# Altium schematic symbol library Regulator_Switching.SchLib: 1279 symbols (part 3 of 14)
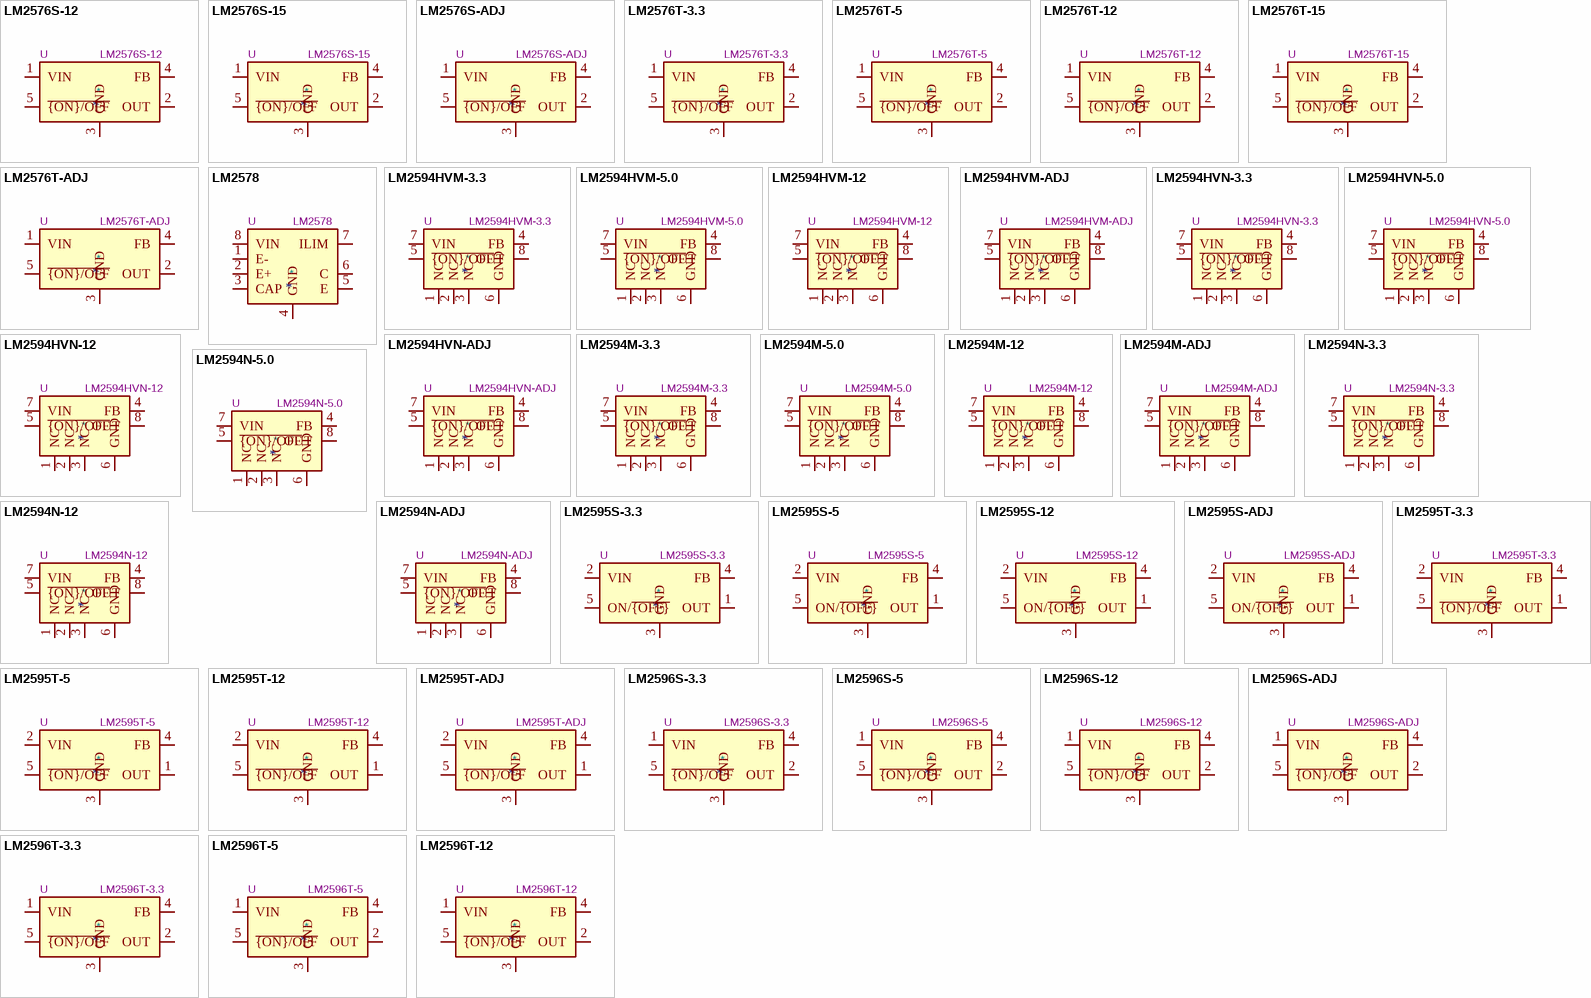
[diagram p34: symbols LM2576S-12 to LM2596T-12]

## LM2576T-ADJ
designator *  value LM2576T-ADJ  Reference: U
Adjustable Output Voltage, 3A SIMPLE SWITCHER® Step-Down Voltage Regulator, TO-220-5; ki_keywords: Step-Down Voltage Regulator 3A Adjustable; ki_fp_filters: TO?220*; Footprint: Package_TO_SOT_THT:TO-220-5_Vertical; Datasheet: http://www.ti.com/lit/ds/symlink/lm2576.pdf; Description_: Adjustable Output Voltage, 3A SIMPLE SWITCHER® Step-Down Voltage Regulator, TO-220-5
pins: 1 VIN, 2 OUT, 3 GND, 4 FB, 5 ~{{ON}/OFF}

## LM2578
designator *  value LM2578  Reference: U
750mA, Switching Regulator, adjustable output voltage, DIP-8/SOIC-8; ki_fp_filters: DIP*W7.62mm* SOIC*3.9x4.9mm*; Datasheet: http://www.ti.com/lit/ds/symlink/lm3578a.pdf; Description_: 750mA, Switching Regulator, adjustable output voltage, DIP-8/SOIC-8; ki_keywords: switching regulator
pins: 1 E-, 2 E+, 3 CAP, 4 GND, 5 E, 6 C, 7 ILIM, 8 VIN

## LM2594HVM-3.3
designator *  value LM2594HVM-3.3  Reference: U
3.3V, 0.5A SIMPLE SWITCHER® Step-Down Voltage Regulator, Maximum VIN 60V, SOIC-8; ki_keywords: buck converter regulator step-down voltage simple switcher fixed; ki_fp_filters: SOIC*3.9x4.9mm*; Footprint: Package_SO:SOIC-8_3.9x4.9mm_P1.27mm; Datasheet: http://www.ti.com/lit/ds/symlink/lm2594.pdf; Description_: 3.3V, 0.5A SIMPLE SWITCHER® Step-Down Voltage Regulator, Maximum VIN 60V, SOIC-8
pins: 1 NC, 2 NC, 3 NC, 4 FB, 5 ~{{ON}/OFF}, 6 GND, 7 VIN, 8 OUT

## LM2594HVM-5.0
designator *  value LM2594HVM-5.0  Reference: U
5.0V, 0.5A SIMPLE SWITCHER® Step-Down Voltage Regulator, Maximum VIN 60V, SOIC-8; ki_keywords: buck converter regulator step-down voltage simple switcher fixed; ki_fp_filters: SOIC*3.9x4.9mm*; Footprint: Package_SO:SOIC-8_3.9x4.9mm_P1.27mm; Datasheet: http://www.ti.com/lit/ds/symlink/lm2594.pdf; Description_: 5.0V, 0.5A SIMPLE SWITCHER® Step-Down Voltage Regulator, Maximum VIN 60V, SOIC-8
pins: 1 NC, 2 NC, 3 NC, 4 FB, 5 ~{{ON}/OFF}, 6 GND, 7 VIN, 8 OUT

## LM2594HVM-12
designator *  value LM2594HVM-12  Reference: U
12V, 0.5A SIMPLE SWITCHER® Step-Down Voltage Regulator, Maximum VIN 60V, SOIC-8; ki_keywords: buck converter regulator step-down voltage simple switcher fixed; ki_fp_filters: SOIC*3.9x4.9mm*; Footprint: Package_SO:SOIC-8_3.9x4.9mm_P1.27mm; Datasheet: http://www.ti.com/lit/ds/symlink/lm2594.pdf; Description_: 12V, 0.5A SIMPLE SWITCHER® Step-Down Voltage Regulator, Maximum VIN 60V, SOIC-8
pins: 1 NC, 2 NC, 3 NC, 4 FB, 5 ~{{ON}/OFF}, 6 GND, 7 VIN, 8 OUT

## LM2594HVM-ADJ
designator *  value LM2594HVM-ADJ  Reference: U
Adjustable Output Voltage, 0.5A SIMPLE SWITCHER® Step-Down Voltage Regulator, Maximum VIN 60V, SOIC-8; ki_keywords: buck converter regulator step-down voltage simple switcher adjustable; ki_fp_filters: SOIC*3.9x4.9mm*; Footprint: Package_SO:SOIC-8_3.9x4.9mm_P1.27mm; Datasheet: http://www.ti.com/lit/ds/symlink/lm2594.pdf; Description_: Adjustable Output Voltage, 0.5A SIMPLE SWITCHER® Step-Down Voltage Regulator, Maximum VIN 60V, SOIC-8
pins: 1 NC, 2 NC, 3 NC, 4 FB, 5 ~{{ON}/OFF}, 6 GND, 7 VIN, 8 OUT

## LM2594HVN-3.3
designator *  value LM2594HVN-3.3  Reference: U
3.3V, 0.5A SIMPLE SWITCHER® Step-Down Voltage Regulator, Maximum VIN 60V, DIP-8; ki_keywords: buck converter regulator step-down voltage simple switcher fixed; ki_fp_filters: DIP*W7.62mm*; Footprint: Package_DIP:DIP-8_W7.62mm; Datasheet: http://www.ti.com/lit/ds/symlink/lm2594.pdf; Description_: 3.3V, 0.5A SIMPLE SWITCHER® Step-Down Voltage Regulator, Maximum VIN 60V, DIP-8
pins: 1 NC, 2 NC, 3 NC, 4 FB, 5 ~{{ON}/OFF}, 6 GND, 7 VIN, 8 OUT

## LM2594HVN-5.0
designator *  value LM2594HVN-5.0  Reference: U
5.0V, 0.5A SIMPLE SWITCHER® Step-Down Voltage Regulator, Maximum VIN 60V, DIP-8; ki_keywords: buck converter regulator step-down voltage simple switcher fixed; ki_fp_filters: DIP*W7.62mm*; Footprint: Package_DIP:DIP-8_W7.62mm; Datasheet: http://www.ti.com/lit/ds/symlink/lm2594.pdf; Description_: 5.0V, 0.5A SIMPLE SWITCHER® Step-Down Voltage Regulator, Maximum VIN 60V, DIP-8
pins: 1 NC, 2 NC, 3 NC, 4 FB, 5 ~{{ON}/OFF}, 6 GND, 7 VIN, 8 OUT

## LM2594HVN-12
designator *  value LM2594HVN-12  Reference: U
12V, 0.5A SIMPLE SWITCHER® Step-Down Voltage Regulator, Maximum VIN 60V, DIP-8; ki_keywords: buck converter regulator step-down voltage simple switcher fixed; ki_fp_filters: DIP*W7.62mm*; Footprint: Package_DIP:DIP-8_W7.62mm; Datasheet: http://www.ti.com/lit/ds/symlink/lm2594.pdf; Description_: 12V, 0.5A SIMPLE SWITCHER® Step-Down Voltage Regulator, Maximum VIN 60V, DIP-8
pins: 1 NC, 2 NC, 3 NC, 4 FB, 5 ~{{ON}/OFF}, 6 GND, 7 VIN, 8 OUT

## LM2594HVN-ADJ
designator *  value LM2594HVN-ADJ  Reference: U
Adjustable Output Voltage, 0.5A SIMPLE SWITCHER® Step-Down Voltage Regulator, Maximum VIN 60V, DIP-8; ki_keywords: buck converter regulator step-down voltage simple switcher adjustable; ki_fp_filters: DIP*W7.62mm*; Footprint: Package_DIP:DIP-8_W7.62mm; Datasheet: http://www.ti.com/lit/ds/symlink/lm2594.pdf; Description_: Adjustable Output Voltage, 0.5A SIMPLE SWITCHER® Step-Down Voltage Regulator, Maximum VIN 60V, DIP-8
pins: 1 NC, 2 NC, 3 NC, 4 FB, 5 ~{{ON}/OFF}, 6 GND, 7 VIN, 8 OUT

## LM2594M-3.3
designator *  value LM2594M-3.3  Reference: U
3.3V, 0.5A SIMPLE SWITCHER® Step-Down Voltage Regulator, Maximum VIN 45V, SOIC-8; ki_keywords: buck converter regulator step-down voltage simple switcher fixed; ki_fp_filters: SOIC*3.9x4.9mm*; Footprint: Package_SO:SOIC-8_3.9x4.9mm_P1.27mm; Datasheet: http://www.ti.com/lit/ds/symlink/lm2594.pdf; Description_: 3.3V, 0.5A SIMPLE SWITCHER® Step-Down Voltage Regulator, Maximum VIN 45V, SOIC-8
pins: 1 NC, 2 NC, 3 NC, 4 FB, 5 ~{{ON}/OFF}, 6 GND, 7 VIN, 8 OUT

## LM2594M-5.0
designator *  value LM2594M-5.0  Reference: U
5.0V, 0.5A SIMPLE SWITCHER® Step-Down Voltage Regulator, Maximum VIN 45V, SOIC-8; ki_keywords: buck converter regulator step-down voltage simple switcher fixed; ki_fp_filters: SOIC*3.9x4.9mm*; Footprint: Package_SO:SOIC-8_3.9x4.9mm_P1.27mm; Datasheet: http://www.ti.com/lit/ds/symlink/lm2594.pdf; Description_: 5.0V, 0.5A SIMPLE SWITCHER® Step-Down Voltage Regulator, Maximum VIN 45V, SOIC-8
pins: 1 NC, 2 NC, 3 NC, 4 FB, 5 ~{{ON}/OFF}, 6 GND, 7 VIN, 8 OUT

## LM2594M-12
designator *  value LM2594M-12  Reference: U
12V, 0.5A SIMPLE SWITCHER® Step-Down Voltage Regulator, Maximum VIN 45V, SOIC-8; ki_keywords: buck converter regulator step-down voltage simple switcher fixed; ki_fp_filters: SOIC*3.9x4.9mm*; Footprint: Package_SO:SOIC-8_3.9x4.9mm_P1.27mm; Datasheet: http://www.ti.com/lit/ds/symlink/lm2594.pdf; Description_: 12V, 0.5A SIMPLE SWITCHER® Step-Down Voltage Regulator, Maximum VIN 45V, SOIC-8
pins: 1 NC, 2 NC, 3 NC, 4 FB, 5 ~{{ON}/OFF}, 6 GND, 7 VIN, 8 OUT

## LM2594M-ADJ
designator *  value LM2594M-ADJ  Reference: U
Adjustable Output Voltage, 0.5A SIMPLE SWITCHER® Step-Down Voltage Regulator, Maximum VIN 45V, SOIC-8; ki_keywords: buck converter regulator step-down voltage simple switcher adjustable; ki_fp_filters: SOIC*3.9x4.9mm*; Footprint: Package_SO:SOIC-8_3.9x4.9mm_P1.27mm; Datasheet: http://www.ti.com/lit/ds/symlink/lm2594.pdf; Description_: Adjustable Output Voltage, 0.5A SIMPLE SWITCHER® Step-Down Voltage Regulator, Maximum VIN 45V, SOIC-8
pins: 1 NC, 2 NC, 3 NC, 4 FB, 5 ~{{ON}/OFF}, 6 GND, 7 VIN, 8 OUT

## LM2594N-3.3
designator *  value LM2594N-3.3  Reference: U
3.3V, 0.5A SIMPLE SWITCHER® Step-Down Voltage Regulator, Maximum VIN 45V, DIP-8; ki_keywords: buck converter regulator step-down voltage simple switcher fixed; ki_fp_filters: DIP*W7.62mm*; Footprint: Package_DIP:DIP-8_W7.62mm; Datasheet: http://www.ti.com/lit/ds/symlink/lm2594.pdf; Description_: 3.3V, 0.5A SIMPLE SWITCHER® Step-Down Voltage Regulator, Maximum VIN 45V, DIP-8
pins: 1 NC, 2 NC, 3 NC, 4 FB, 5 ~{{ON}/OFF}, 6 GND, 7 VIN, 8 OUT

## LM2594N-5.0
designator *  value LM2594N-5.0  Reference: U
5.0V, 0.5A SIMPLE SWITCHER® Step-Down Voltage Regulator, Maximum VIN 45V, DIP-8; ki_keywords: buck converter regulator step-down voltage simple switcher fixed; ki_fp_filters: DIP*W7.62mm*; Footprint: Package_DIP:DIP-8_W7.62mm; Datasheet: http://www.ti.com/lit/ds/symlink/lm2594.pdf; Description_: 5.0V, 0.5A SIMPLE SWITCHER® Step-Down Voltage Regulator, Maximum VIN 45V, DIP-8
pins: 1 NC, 2 NC, 3 NC, 4 FB, 5 ~{{ON}/OFF}, 6 GND, 7 VIN, 8 OUT

## LM2594N-12
designator *  value LM2594N-12  Reference: U
12V, 0.5A SIMPLE SWITCHER® Step-Down Voltage Regulator, Maximum VIN 45V, DIP-8; ki_keywords: buck converter regulator step-down voltage simple switcher fixed; ki_fp_filters: DIP*W7.62mm*; Footprint: Package_DIP:DIP-8_W7.62mm; Datasheet: http://www.ti.com/lit/ds/symlink/lm2594.pdf; Description_: 12V, 0.5A SIMPLE SWITCHER® Step-Down Voltage Regulator, Maximum VIN 45V, DIP-8
pins: 1 NC, 2 NC, 3 NC, 4 FB, 5 ~{{ON}/OFF}, 6 GND, 7 VIN, 8 OUT

## LM2594N-ADJ
designator *  value LM2594N-ADJ  Reference: U
Adjustable Output Voltage, 0.5A SIMPLE SWITCHER® Step-Down Voltage Regulator, Maximum VIN 45V, DIP-8; ki_keywords: buck converter regulator step-down voltage simple switcher adjustable; ki_fp_filters: DIP*W7.62mm*; Footprint: Package_DIP:DIP-8_W7.62mm; Datasheet: http://www.ti.com/lit/ds/symlink/lm2594.pdf; Description_: Adjustable Output Voltage, 0.5A SIMPLE SWITCHER® Step-Down Voltage Regulator, Maximum VIN 45V, DIP-8
pins: 1 NC, 2 NC, 3 NC, 4 FB, 5 ~{{ON}/OFF}, 6 GND, 7 VIN, 8 OUT

## LM2595S-3.3
designator *  value LM2595S-3.3  Reference: U
3.3V, 1A Step-Down Voltage Regulator, TO-263-5; ki_keywords: Step-Down Voltage Regulator 3.3V 1A; ki_fp_filters: TO?263*; Footprint: Package_TO_SOT_SMD:TO-263-5_TabPin3; Datasheet: http://www.ti.com.cn/cn/lit/ds/symlink/lm2595.pdf; Description_: 3.3V, 1A Step-Down Voltage Regulator, TO-263-5
pins: 1 OUT, 2 VIN, 3 GND, 4 FB, 5 ON/~{{OFF}}

## LM2595S-5
designator *  value LM2595S-5  Reference: U
5V, 1A Step-Down Voltage Regulator, TO-263-5; ki_keywords: Step-Down Voltage Regulator 5V 1A; ki_fp_filters: TO?263*; Footprint: Package_TO_SOT_SMD:TO-263-5_TabPin3; Datasheet: http://www.ti.com.cn/cn/lit/ds/symlink/lm2595.pdf; Description_: 5V, 1A Step-Down Voltage Regulator, TO-263-5
pins: 1 OUT, 2 VIN, 3 GND, 4 FB, 5 ON/~{{OFF}}

## LM2595S-12
designator *  value LM2595S-12  Reference: U
12V, 1A Step-Down Voltage Regulator, TO-263-5; ki_keywords: Step-Down Voltage Regulator 12V 1A; ki_fp_filters: TO?263*; Footprint: Package_TO_SOT_SMD:TO-263-5_TabPin3; Datasheet: http://www.ti.com.cn/cn/lit/ds/symlink/lm2595.pdf; Description_: 12V, 1A Step-Down Voltage Regulator, TO-263-5
pins: 1 OUT, 2 VIN, 3 GND, 4 FB, 5 ON/~{{OFF}}

## LM2595S-ADJ
designator *  value LM2595S-ADJ  Reference: U
Adjustable Output 1A Step-Down Voltage Regulator, TO-263-5; ki_keywords: Step-Down Voltage Regulator 1A Adjustable; ki_fp_filters: TO?263*; Footprint: Package_TO_SOT_SMD:TO-263-5_TabPin3; Datasheet: http://www.ti.com.cn/cn/lit/ds/symlink/lm2595.pdf; Description_: Adjustable Output 1A Step-Down Voltage Regulator, TO-263-5
pins: 1 OUT, 2 VIN, 3 GND, 4 FB, 5 ON/~{{OFF}}

## LM2595T-3.3
designator *  value LM2595T-3.3  Reference: U
3.3V, 1A Step-Down Voltage Regulator, TO-220-5; ki_keywords: Step-Down Voltage Regulator 3.3V 1A; ki_fp_filters: TO?220*; Footprint: Package_TO_SOT_THT:TO-220-5_P3.4x3.7mm_StaggerOdd_Lead3.8mm_Vertical; Datasheet: http://www.ti.com.cn/cn/lit/ds/symlink/lm2595.pdf; Description_: 3.3V, 1A Step-Down Voltage Regulator, TO-220-5
pins: 1 OUT, 2 VIN, 3 GND, 4 FB, 5 ~{{ON}/OFF}

## LM2595T-5
designator *  value LM2595T-5  Reference: U
5V, 1A Step-Down Voltage Regulator, TO-220-5; ki_keywords: Step-Down Voltage Regulator 5V 1A; ki_fp_filters: TO?220*; Footprint: Package_TO_SOT_THT:TO-220-5_P3.4x3.7mm_StaggerOdd_Lead3.8mm_Vertical; Datasheet: http://www.ti.com.cn/cn/lit/ds/symlink/lm2595.pdf; Description_: 5V, 1A Step-Down Voltage Regulator, TO-220-5
pins: 1 OUT, 2 VIN, 3 GND, 4 FB, 5 ~{{ON}/OFF}

## LM2595T-12
designator *  value LM2595T-12  Reference: U
12V, 1A Step-Down Voltage Regulator, TO-220-5; ki_keywords: Step-Down Voltage Regulator 12V 1A; ki_fp_filters: TO?220*; Footprint: Package_TO_SOT_THT:TO-220-5_P3.4x3.7mm_StaggerOdd_Lead3.8mm_Vertical; Datasheet: http://www.ti.com.cn/cn/lit/ds/symlink/lm2595.pdf; Description_: 12V, 1A Step-Down Voltage Regulator, TO-220-5
pins: 1 OUT, 2 VIN, 3 GND, 4 FB, 5 ~{{ON}/OFF}

## LM2595T-ADJ
designator *  value LM2595T-ADJ  Reference: U
Adjustable Output 1A Step-Down Voltage Regulator, TO-220-5; ki_keywords: Step-Down Voltage Regulator 1A Adjustable; ki_fp_filters: TO?220*; Footprint: Package_TO_SOT_THT:TO-220-5_P3.4x3.7mm_StaggerOdd_Lead3.8mm_Vertical; Datasheet: http://www.ti.com.cn/cn/lit/ds/symlink/lm2595.pdf; Description_: Adjustable Output 1A Step-Down Voltage Regulator, TO-220-5
pins: 1 OUT, 2 VIN, 3 GND, 4 FB, 5 ~{{ON}/OFF}

## LM2596S-3.3
designator *  value LM2596S-3.3  Reference: U
3.3V 3A Step-Down Voltage Regulator, TO-263; ki_keywords: Step-Down Voltage Regulator 3.3V 3A; ki_fp_filters: TO?263*; Footprint: Package_TO_SOT_SMD:TO-263-5_TabPin3; Datasheet: http://www.ti.com/lit/ds/symlink/lm2596.pdf; Description_: 3.3V 3A Step-Down Voltage Regulator, TO-263
pins: 1 VIN, 2 OUT, 3 GND, 4 FB, 5 ~{{ON}/OFF}

## LM2596S-5
designator *  value LM2596S-5  Reference: U
5V 3A Step-Down Voltage Regulator, TO-263; ki_keywords: Step-Down Voltage Regulator 5V 3A; ki_fp_filters: TO?263*; Footprint: Package_TO_SOT_SMD:TO-263-5_TabPin3; Datasheet: http://www.ti.com/lit/ds/symlink/lm2596.pdf; Description_: 5V 3A Step-Down Voltage Regulator, TO-263
pins: 1 VIN, 2 OUT, 3 GND, 4 FB, 5 ~{{ON}/OFF}

## LM2596S-12
designator *  value LM2596S-12  Reference: U
12V 3A Step-Down Voltage Regulator, TO-263; ki_keywords: Step-Down Voltage Regulator 12V 3A; ki_fp_filters: TO?263*; Footprint: Package_TO_SOT_SMD:TO-263-5_TabPin3; Datasheet: http://www.ti.com/lit/ds/symlink/lm2596.pdf; Description_: 12V 3A Step-Down Voltage Regulator, TO-263
pins: 1 VIN, 2 OUT, 3 GND, 4 FB, 5 ~{{ON}/OFF}

## LM2596S-ADJ
designator *  value LM2596S-ADJ  Reference: U
Adjustable 3A Step-Down Voltage Regulator, TO-263; ki_keywords: Step-Down Voltage Regulator Adjustable 3A; ki_fp_filters: TO?263*; Footprint: Package_TO_SOT_SMD:TO-263-5_TabPin3; Datasheet: http://www.ti.com/lit/ds/symlink/lm2596.pdf; Description_: Adjustable 3A Step-Down Voltage Regulator, TO-263
pins: 1 VIN, 2 OUT, 3 GND, 4 FB, 5 ~{{ON}/OFF}

## LM2596T-3.3
designator *  value LM2596T-3.3  Reference: U
3.3V 3A 150kHz Step-Down Voltage Regulator, TO-220; ki_keywords: Step-Down Voltage Regulator 3.3V 3A; ki_fp_filters: TO?220*; Footprint: Package_TO_SOT_THT:TO-220-5_P3.4x3.7mm_StaggerOdd_Lead3.8mm_Vertical; Datasheet: http://www.ti.com/lit/ds/symlink/lm2596.pdf; Description_: 3.3V 3A 150kHz Step-Down Voltage Regulator, TO-220
pins: 1 VIN, 2 OUT, 3 GND, 4 FB, 5 ~{{ON}/OFF}

## LM2596T-5
designator *  value LM2596T-5  Reference: U
5V 3A 150kHz Step-Down Voltage Regulator, TO-220; ki_keywords: Step-Down Voltage Regulator 5V 3A; ki_fp_filters: TO?220*; Footprint: Package_TO_SOT_THT:TO-220-5_P3.4x3.7mm_StaggerOdd_Lead3.8mm_Vertical; Datasheet: http://www.ti.com/lit/ds/symlink/lm2596.pdf; Description_: 5V 3A 150kHz Step-Down Voltage Regulator, TO-220
pins: 1 VIN, 2 OUT, 3 GND, 4 FB, 5 ~{{ON}/OFF}

## LM2596T-12
designator *  value LM2596T-12  Reference: U
12V 3A 150kHz Step-Down Voltage Regulator, TO-220; ki_keywords: Step-Down Voltage Regulator 12V 3A; ki_fp_filters: TO?220*; Footprint: Package_TO_SOT_THT:TO-220-5_P3.4x3.7mm_StaggerOdd_Lead3.8mm_Vertical; Datasheet: http://www.ti.com/lit/ds/symlink/lm2596.pdf; Description_: 12V 3A 150kHz Step-Down Voltage Regulator, TO-220
pins: 1 VIN, 2 OUT, 3 GND, 4 FB, 5 ~{{ON}/OFF}

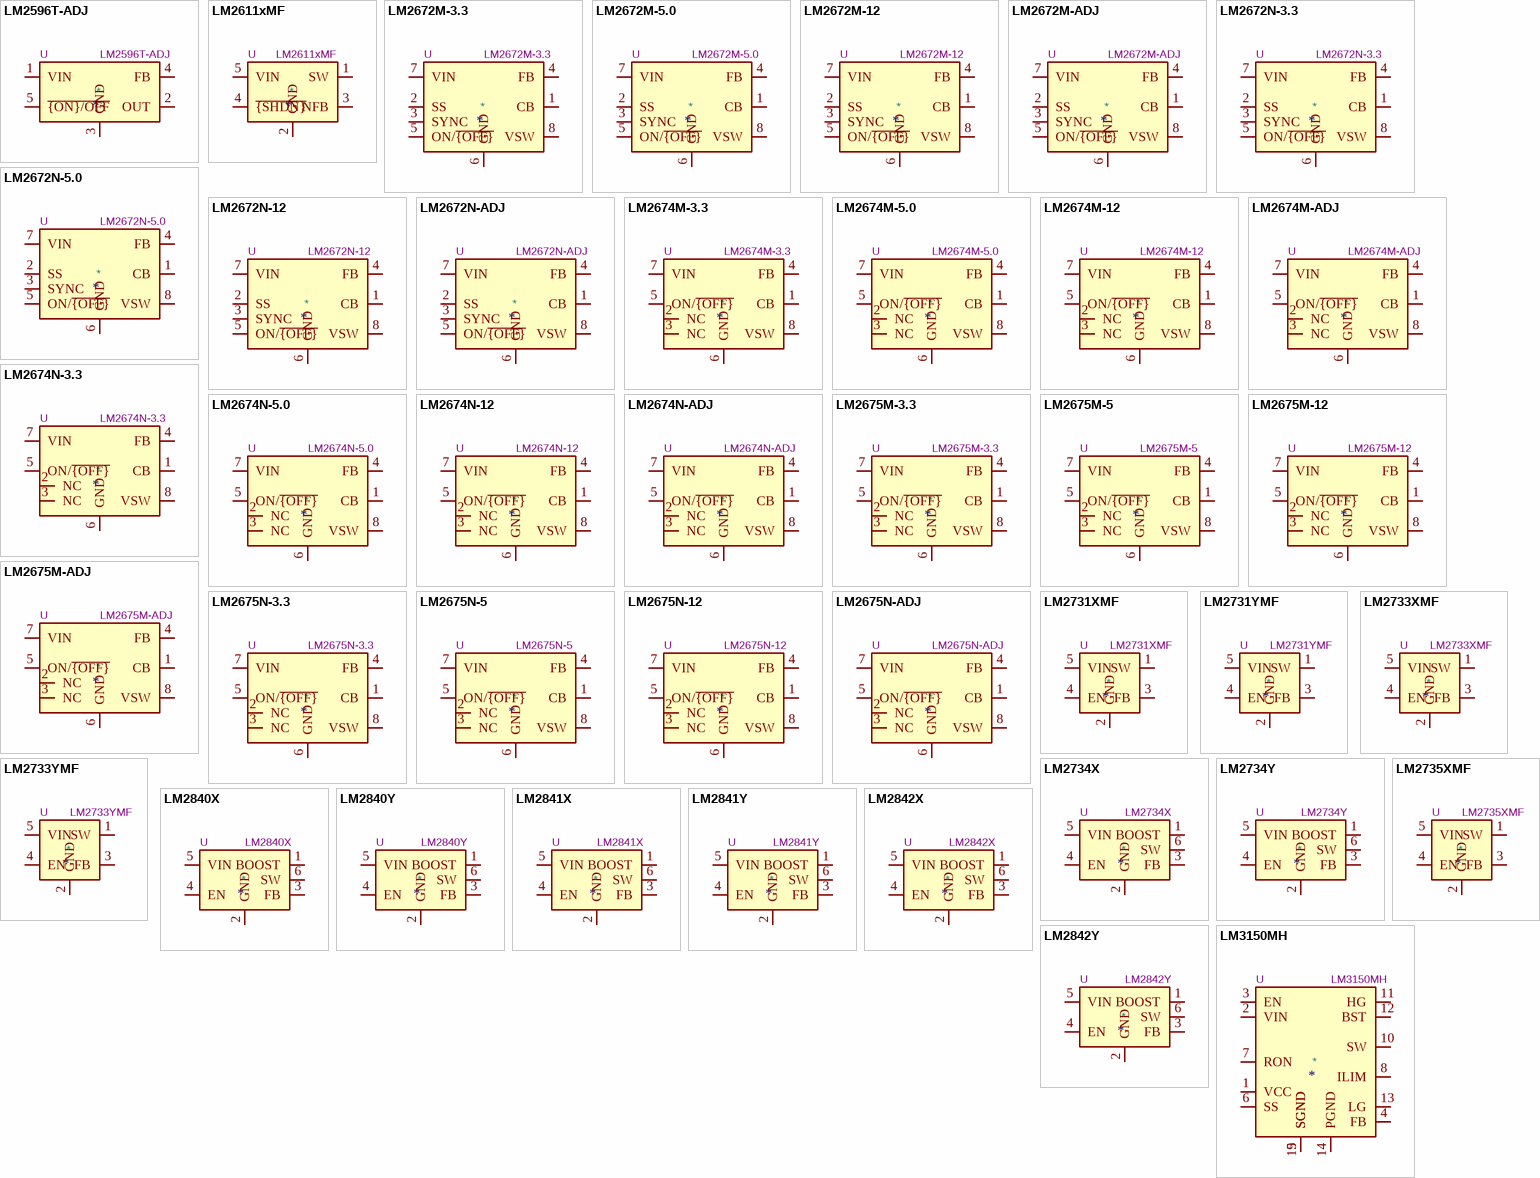
[diagram p6: symbols LM2596T-ADJ to LM3150MH]

## LM2596T-ADJ
designator *  value LM2596T-ADJ  Reference: U
Adjustable 3A 150kHz Step-Down Voltage Regulator, TO-220; ki_keywords: Step-Down Voltage Regulator Adjustable 3A; ki_fp_filters: TO?220*; Footprint: Package_TO_SOT_THT:TO-220-5_P3.4x3.7mm_StaggerOdd_Lead3.8mm_Vertical; Datasheet: http://www.ti.com/lit/ds/symlink/lm2596.pdf; Description_: Adjustable 3A 150kHz Step-Down Voltage Regulator, TO-220
pins: 1 VIN, 2 OUT, 3 GND, 4 FB, 5 ~{{ON}/OFF}

## LM2611xMF
designator *  value LM2611xMF  Reference: U
1.4MHz Cuk Converter, SOT-23-5; ki_keywords: switched converter inverter PWM; ki_fp_filters: SOT?23*; Footprint: Package_TO_SOT_SMD:SOT-23-5; Datasheet: https://www.ti.com/lit/ds/symlink/lm2611.pdf; Description_: 1.4MHz Cuk Converter, SOT-23-5
pins: 1 SW, 2 GND, 3 NFB, 4 ~{{SHDN}}, 5 VIN

## LM2672M-3.3
designator *  value LM2672M-3.3  Reference: U
3.3V, 1A Step-Down Voltage Regulator, SO-8; ki_keywords: Step-Down Voltage Regulator 3.3V 1A; ki_fp_filters: SOIC*3.9x4.9mm*P1.27mm*; Footprint: Package_SO:SOIC-8_3.9x4.9mm_P1.27mm; Datasheet: http://www.ti.com/lit/ds/symlink/lm2672.pdf; Description_: 3.3V, 1A Step-Down Voltage Regulator, SO-8
pins: 1 CB, 2 SS, 3 SYNC, 4 FB, 5 ON/~{{OFF}}, 6 GND, 7 VIN, 8 VSW

## LM2672M-5.0
designator *  value LM2672M-5.0  Reference: U
5V, 1A Step-Down Voltage Regulator, SO-8; ki_keywords: Step-Down Voltage Regulator 5V 1A; ki_fp_filters: SOIC*3.9x4.9mm*P1.27mm*; Footprint: Package_SO:SOIC-8_3.9x4.9mm_P1.27mm; Datasheet: http://www.ti.com/lit/ds/symlink/lm2672.pdf; Description_: 5V, 1A Step-Down Voltage Regulator, SO-8
pins: 1 CB, 2 SS, 3 SYNC, 4 FB, 5 ON/~{{OFF}}, 6 GND, 7 VIN, 8 VSW

## LM2672M-12
designator *  value LM2672M-12  Reference: U
12V, 1A Step-Down Voltage Regulator, SO-8; ki_keywords: Step-Down Voltage Regulator 12V 1A; ki_fp_filters: SOIC*3.9x4.9mm*P1.27mm*; Footprint: Package_SO:SOIC-8_3.9x4.9mm_P1.27mm; Datasheet: http://www.ti.com/lit/ds/symlink/lm2672.pdf; Description_: 12V, 1A Step-Down Voltage Regulator, SO-8
pins: 1 CB, 2 SS, 3 SYNC, 4 FB, 5 ON/~{{OFF}}, 6 GND, 7 VIN, 8 VSW

## LM2672M-ADJ
designator *  value LM2672M-ADJ  Reference: U
Adjustable Output Voltage, 1A Step-Down Voltage Regulator, SO-8; ki_fp_filters: SOIC*3.9x4.9mm*P1.27mm*; Footprint: Package_SO:SOIC-8_3.9x4.9mm_P1.27mm; Datasheet: http://www.ti.com/lit/ds/symlink/lm2672.pdf; Description_: Adjustable Output Voltage, 1A Step-Down Voltage Regulator, SO-8; ki_keywords: Step-Down Voltage Regulator
pins: 1 CB, 2 SS, 3 SYNC, 4 FB, 5 ON/~{{OFF}}, 6 GND, 7 VIN, 8 VSW

## LM2672N-3.3
designator *  value LM2672N-3.3  Reference: U
3.3V, 1A Step-Down Voltage Regulator, DIP-8; ki_keywords: Step-Down Voltage Regulator 3.3V 1A; ki_fp_filters: DIP*W7.62mm*; Footprint: Package_DIP:DIP-8_W7.62mm; Datasheet: http://www.ti.com/lit/ds/symlink/lm2672.pdf; Description_: 3.3V, 1A Step-Down Voltage Regulator, DIP-8
pins: 1 CB, 2 SS, 3 SYNC, 4 FB, 5 ON/~{{OFF}}, 6 GND, 7 VIN, 8 VSW

## LM2672N-5.0
designator *  value LM2672N-5.0  Reference: U
5V, 1A Step-Down Voltage Regulator, DIP-8; ki_keywords: Step-Down Voltage Regulator 5V 1A; ki_fp_filters: DIP*W7.62mm*; Footprint: Package_DIP:DIP-8_W7.62mm; Datasheet: http://www.ti.com/lit/ds/symlink/lm2672.pdf; Description_: 5V, 1A Step-Down Voltage Regulator, DIP-8
pins: 1 CB, 2 SS, 3 SYNC, 4 FB, 5 ON/~{{OFF}}, 6 GND, 7 VIN, 8 VSW

## LM2672N-12
designator *  value LM2672N-12  Reference: U
12V, 1A Step-Down Voltage Regulator, DIP-8; ki_keywords: Step-Down Voltage Regulator 12V 1A; ki_fp_filters: DIP*W7.62mm*; Footprint: Package_DIP:DIP-8_W7.62mm; Datasheet: http://www.ti.com/lit/ds/symlink/lm2672.pdf; Description_: 12V, 1A Step-Down Voltage Regulator, DIP-8
pins: 1 CB, 2 SS, 3 SYNC, 4 FB, 5 ON/~{{OFF}}, 6 GND, 7 VIN, 8 VSW

## LM2672N-ADJ
designator *  value LM2672N-ADJ  Reference: U
Adjustable Output Voltage, 1A Step-Down Voltage Regulator, DIP-8; ki_fp_filters: DIP*W7.62mm*; Footprint: Package_DIP:DIP-8_W7.62mm; Datasheet: http://www.ti.com/lit/ds/symlink/lm2672.pdf; Description_: Adjustable Output Voltage, 1A Step-Down Voltage Regulator, DIP-8; ki_keywords: Step-Down Voltage Regulator
pins: 1 CB, 2 SS, 3 SYNC, 4 FB, 5 ON/~{{OFF}}, 6 GND, 7 VIN, 8 VSW

## LM2674M-3.3
designator *  value LM2674M-3.3  Reference: U
3.3V, 500mA Step-Down Voltage Regulator, SO-8; ki_fp_filters: SOIC*3.9x4.9mm*P1.27mm*; Footprint: Package_SO:SOIC-8_3.9x4.9mm_P1.27mm; Datasheet: http://www.ti.com/lit/ds/symlink/lm2674.pdf; Description_: 3.3V, 500mA Step-Down Voltage Regulator, SO-8; ki_keywords: Step-Down Voltage Regulator
pins: 1 CB, 2 NC, 3 NC, 4 FB, 5 ON/~{{OFF}}, 6 GND, 7 VIN, 8 VSW

## LM2674M-5.0
designator *  value LM2674M-5.0  Reference: U
5V, 500mA Step-Down Voltage Regulator, SO-8; ki_fp_filters: SOIC*3.9x4.9mm*P1.27mm*; Footprint: Package_SO:SOIC-8_3.9x4.9mm_P1.27mm; Datasheet: http://www.ti.com/lit/ds/symlink/lm2674.pdf; Description_: 5V, 500mA Step-Down Voltage Regulator, SO-8; ki_keywords: Step-Down Voltage Regulator
pins: 1 CB, 2 NC, 3 NC, 4 FB, 5 ON/~{{OFF}}, 6 GND, 7 VIN, 8 VSW

## LM2674M-12
designator *  value LM2674M-12  Reference: U
12V, 500mA Step-Down Voltage Regulator, SO-8; ki_keywords: Step-Down Voltage Regulator 12V 500mA; ki_fp_filters: SOIC*3.9x4.9mm*P1.27mm*; Footprint: Package_SO:SOIC-8_3.9x4.9mm_P1.27mm; Datasheet: http://www.ti.com/lit/ds/symlink/lm2674.pdf; Description_: 12V, 500mA Step-Down Voltage Regulator, SO-8
pins: 1 CB, 2 NC, 3 NC, 4 FB, 5 ON/~{{OFF}}, 6 GND, 7 VIN, 8 VSW

## LM2674M-ADJ
designator *  value LM2674M-ADJ  Reference: U
Adjustable Output Voltage, 500mA Step-Down Voltage Regulator, SO-8; ki_fp_filters: SOIC*3.9x4.9mm*P1.27mm*; Footprint: Package_SO:SOIC-8_3.9x4.9mm_P1.27mm; Datasheet: http://www.ti.com/lit/ds/symlink/lm2674.pdf; Description_: Adjustable Output Voltage, 500mA Step-Down Voltage Regulator, SO-8; ki_keywords: Step-Down Voltage Regulator
pins: 1 CB, 2 NC, 3 NC, 4 FB, 5 ON/~{{OFF}}, 6 GND, 7 VIN, 8 VSW

## LM2674N-3.3
designator *  value LM2674N-3.3  Reference: U
3.3V, 500mA Step-Down Voltage Regulator, DIP-8; ki_fp_filters: DIP*W7.62mm*; Footprint: Package_DIP:DIP-8_W7.62mm; Datasheet: http://www.ti.com/lit/ds/symlink/lm2674.pdf; Description_: 3.3V, 500mA Step-Down Voltage Regulator, DIP-8; ki_keywords: Step-Down Voltage Regulator
pins: 1 CB, 2 NC, 3 NC, 4 FB, 5 ON/~{{OFF}}, 6 GND, 7 VIN, 8 VSW

## LM2674N-5.0
designator *  value LM2674N-5.0  Reference: U
5V, 500mA Step-Down Voltage Regulator, DIP-8; ki_fp_filters: DIP*W7.62mm*; Footprint: Package_DIP:DIP-8_W7.62mm; Datasheet: http://www.ti.com/lit/ds/symlink/lm2674.pdf; Description_: 5V, 500mA Step-Down Voltage Regulator, DIP-8; ki_keywords: Step-Down Voltage Regulator
pins: 1 CB, 2 NC, 3 NC, 4 FB, 5 ON/~{{OFF}}, 6 GND, 7 VIN, 8 VSW

## LM2674N-12
designator *  value LM2674N-12  Reference: U
12V, 500mA Step-Down Voltage Regulator, DIP-8; ki_keywords: Step-Down Voltage Regulator 12V 500mA; ki_fp_filters: DIP*W7.62mm*; Footprint: Package_DIP:DIP-8_W7.62mm; Datasheet: http://www.ti.com/lit/ds/symlink/lm2674.pdf; Description_: 12V, 500mA Step-Down Voltage Regulator, DIP-8
pins: 1 CB, 2 NC, 3 NC, 4 FB, 5 ON/~{{OFF}}, 6 GND, 7 VIN, 8 VSW

## LM2674N-ADJ
designator *  value LM2674N-ADJ  Reference: U
Adjustable Output Voltage, 500mA Step-Down Voltage Regulator, DIP-8; ki_fp_filters: DIP*W7.62mm*; Footprint: Package_DIP:DIP-8_W7.62mm; Datasheet: http://www.ti.com/lit/ds/symlink/lm2674.pdf; Description_: Adjustable Output Voltage, 500mA Step-Down Voltage Regulator, DIP-8; ki_keywords: Step-Down Voltage Regulator
pins: 1 CB, 2 NC, 3 NC, 4 FB, 5 ON/~{{OFF}}, 6 GND, 7 VIN, 8 VSW

## LM2675M-3.3
designator *  value LM2675M-3.3  Reference: U
3.3V, 1A Step-Down Voltage Regulator, SO-8; ki_keywords: Step-Down Voltage Regulator 3.3V 1A; ki_fp_filters: SOIC*3.9x4.9mm*P1.27mm*; Footprint: Package_SO:SOIC-8_3.9x4.9mm_P1.27mm; Datasheet: http://www.ti.com/lit/ds/symlink/lm2675.pdf; Description_: 3.3V, 1A Step-Down Voltage Regulator, SO-8
pins: 1 CB, 2 NC, 3 NC, 4 FB, 5 ON/~{{OFF}}, 6 GND, 7 VIN, 8 VSW

## LM2675M-5
designator *  value LM2675M-5  Reference: U
5V, 1A Step-Down Voltage Regulator, SO-8; ki_keywords: Step-Down Voltage Regulator 5V 1A; ki_fp_filters: SOIC*3.9x4.9mm*P1.27mm*; Footprint: Package_SO:SOIC-8_3.9x4.9mm_P1.27mm; Datasheet: http://www.ti.com/lit/ds/symlink/lm2675.pdf; Description_: 5V, 1A Step-Down Voltage Regulator, SO-8
pins: 1 CB, 2 NC, 3 NC, 4 FB, 5 ON/~{{OFF}}, 6 GND, 7 VIN, 8 VSW

## LM2675M-12
designator *  value LM2675M-12  Reference: U
12V, 1A Step-Down Voltage Regulator, SO-8; ki_keywords: Step-Down Voltage Regulator 12V 1A; ki_fp_filters: SOIC*3.9x4.9mm*P1.27mm*; Footprint: Package_SO:SOIC-8_3.9x4.9mm_P1.27mm; Datasheet: http://www.ti.com/lit/ds/symlink/lm2675.pdf; Description_: 12V, 1A Step-Down Voltage Regulator, SO-8
pins: 1 CB, 2 NC, 3 NC, 4 FB, 5 ON/~{{OFF}}, 6 GND, 7 VIN, 8 VSW

## LM2675M-ADJ
designator *  value LM2675M-ADJ  Reference: U
Adjustable Output Voltage, 1A Step-Down Voltage Regulator, SO-8; ki_keywords: Step-Down Voltage Regulator Adjustable; ki_fp_filters: SOIC*3.9x4.9mm*P1.27mm*; Footprint: Package_SO:SOIC-8_3.9x4.9mm_P1.27mm; Datasheet: http://www.ti.com/lit/ds/symlink/lm2675.pdf; Description_: Adjustable Output Voltage, 1A Step-Down Voltage Regulator, SO-8
pins: 1 CB, 2 NC, 3 NC, 4 FB, 5 ON/~{{OFF}}, 6 GND, 7 VIN, 8 VSW

## LM2675N-3.3
designator *  value LM2675N-3.3  Reference: U
3.3V, 1A Step-Down Voltage Regulator, DIP-8; ki_keywords: Step-Down Voltage Regulator 3.3V 1A; ki_fp_filters: DIP*W7.62mm*; Footprint: Package_DIP:DIP-8_W7.62mm; Datasheet: http://www.ti.com/lit/ds/symlink/lm2675.pdf; Description_: 3.3V, 1A Step-Down Voltage Regulator, DIP-8
pins: 1 CB, 2 NC, 3 NC, 4 FB, 5 ON/~{{OFF}}, 6 GND, 7 VIN, 8 VSW

## LM2675N-5
designator *  value LM2675N-5  Reference: U
5V, 1A Step-Down Voltage Regulator, DIP-8; ki_keywords: Step-Down Voltage Regulator 5V 1A; ki_fp_filters: DIP*W7.62mm*; Footprint: Package_DIP:DIP-8_W7.62mm; Datasheet: http://www.ti.com/lit/ds/symlink/lm2675.pdf; Description_: 5V, 1A Step-Down Voltage Regulator, DIP-8
pins: 1 CB, 2 NC, 3 NC, 4 FB, 5 ON/~{{OFF}}, 6 GND, 7 VIN, 8 VSW

## LM2675N-12
designator *  value LM2675N-12  Reference: U
12V, 1A Step-Down Voltage Regulator, DIP-8; ki_keywords: Step-Down Voltage Regulator 12V 1A; ki_fp_filters: DIP*W7.62mm*; Footprint: Package_DIP:DIP-8_W7.62mm; Datasheet: http://www.ti.com/lit/ds/symlink/lm2675.pdf; Description_: 12V, 1A Step-Down Voltage Regulator, DIP-8
pins: 1 CB, 2 NC, 3 NC, 4 FB, 5 ON/~{{OFF}}, 6 GND, 7 VIN, 8 VSW

## LM2675N-ADJ
designator *  value LM2675N-ADJ  Reference: U
Adjustable Output Voltage, 1A Step-Down Voltage Regulator, DIP-8; ki_keywords: Step-Down Voltage Regulator Adjustable; ki_fp_filters: DIP*W7.62mm*; Footprint: Package_DIP:DIP-8_W7.62mm; Datasheet: http://www.ti.com/lit/ds/symlink/lm2675.pdf; Description_: Adjustable Output Voltage, 1A Step-Down Voltage Regulator, DIP-8
pins: 1 CB, 2 NC, 3 NC, 4 FB, 5 ON/~{{OFF}}, 6 GND, 7 VIN, 8 VSW

## LM2731XMF
designator *  value LM2731XMF  Reference: U
LM27313, 1.8A, 22Vout Boost Voltage Regulator, 1.6MHz Frequency, SOT-23-5; ki_keywords: Miniature Step-Up Boost Voltage Regulator; ki_fp_filters: SOT?23*; Footprint: Package_TO_SOT_SMD:SOT-23-5; Datasheet: http://www.ti.com/lit/ds/symlink/lm2731.pdf; Description_: LM27313, 1.8A, 22Vout Boost Voltage Regulator, 1.6MHz Frequency, SOT-23-5
pins: 1 SW, 2 GND, 3 FB, 4 EN, 5 VIN

## LM2731YMF
designator *  value LM2731YMF  Reference: U
LM27313, 1.8A, 22Vout Boost Voltage Regulator, 600KHz Frequency,; ki_keywords: Miniature Step-Up Boost Voltage Regulator; ki_fp_filters: SOT?23*; Footprint: Package_TO_SOT_SMD:SOT-23-5; Datasheet: http://www.ti.com/lit/ds/symlink/lm2731.pdf; Description_: LM27313, 1.8A, 22Vout Boost Voltage Regulator, 600KHz Frequency,
pins: 1 SW, 2 GND, 3 FB, 4 EN, 5 VIN

## LM2733XMF
designator *  value LM2733XMF  Reference: U
LM27313, 1A, 40Vout Boost Voltage Regulator, 1.6MHz Frequency, SOT-23-5; ki_keywords: Miniature Step-Up Boost Voltage Regulator; ki_fp_filters: SOT?23*; Footprint: Package_TO_SOT_SMD:SOT-23-5; Datasheet: http://www.ti.com/lit/ds/symlink/lm2733.pdf; Description_: LM27313, 1A, 40Vout Boost Voltage Regulator, 1.6MHz Frequency, SOT-23-5
pins: 1 SW, 2 GND, 3 FB, 4 EN, 5 VIN

## LM2733YMF
designator *  value LM2733YMF  Reference: U
LM27313, 1A, 40Vout Boost Voltage Regulator, 600KHz Frequency,; ki_keywords: Miniature Step-Up Boost Voltage Regulator; ki_fp_filters: SOT?23*; Footprint: Package_TO_SOT_SMD:SOT-23-5; Datasheet: http://www.ti.com/lit/ds/symlink/lm2733.pdf; Description_: LM27313, 1A, 40Vout Boost Voltage Regulator, 600KHz Frequency,
pins: 1 SW, 2 GND, 3 FB, 4 EN, 5 VIN

## LM2734X
designator *  value LM2734X  Reference: U
1A Step-Down DC-DC Regulator, Adjustable Output Voltage, 1.6MHz, TSOT-23-5; ki_keywords: Miniature Step-Down Buck Voltage Regulator; ki_fp_filters: TSOT?23*; Footprint: Package_TO_SOT_SMD:TSOT-23-6; Datasheet: http://www.ti.com/lit/ds/symlink/lm2734.pdf; Description_: 1A Step-Down DC-DC Regulator, Adjustable Output Voltage, 1.6MHz, TSOT-23-5
pins: 1 BOOST, 2 GND, 3 FB, 4 EN, 5 VIN, 6 SW

## LM2734Y
designator *  value LM2734Y  Reference: U
1A Step-Down DC-DC Regulator, Adjustable Output Voltage, 550kHz, TSOT-23-5; ki_keywords: Miniature Step-Down Buck Voltage Regulator; ki_fp_filters: TSOT?23*; Footprint: Package_TO_SOT_SMD:TSOT-23-6; Datasheet: http://www.ti.com/lit/ds/symlink/lm2734.pdf; Description_: 1A Step-Down DC-DC Regulator, Adjustable Output Voltage, 550kHz, TSOT-23-5
pins: 1 BOOST, 2 GND, 3 FB, 4 EN, 5 VIN, 6 SW

## LM2735XMF
designator *  value LM2735XMF  Reference: U
LM27313, 2.1A, 24Vout Boost/FlybacK/SEPIC Voltage Regulator, 520kHz/1.6MHz Frequency,; ki_keywords: Miniature Step-Up Boost Flyback SEPIC Voltage Regulator; ki_fp_filters: SOT?23*; Footprint: Package_TO_SOT_SMD:SOT-23-5; Datasheet: http://www.ti.com/lit/ds/symlink/lm2735.pdf; Description_: LM27313, 2.1A, 24Vout Boost/FlybacK/SEPIC Voltage Regulator, 520kHz/1.6MHz Frequency,
pins: 1 SW, 2 GND, 3 FB, 4 EN, 5 VIN

## LM2840X
designator *  value LM2840X  Reference: U
100mA 42V Input Step-Down DC-DC Regulator, Adjustable Output Voltage, 550kHz, TSOT-23-5; ki_keywords: Miniature Step-Down Buck Voltage Regulator; ki_fp_filters: TSOT?23*; Footprint: Package_TO_SOT_SMD:TSOT-23-6; Datasheet: http://www.ti.com/lit/ds/symlink/lm2842-q1.pdf; Description_: 100mA 42V Input Step-Down DC-DC Regulator, Adjustable Output Voltage, 550kHz, TSOT-23-5
pins: 1 BOOST, 2 GND, 3 FB, 4 EN, 5 VIN, 6 SW

## LM2840Y
designator *  value LM2840Y  Reference: U
100mA 42V Input Step-Down DC-DC Regulator, Adjustable Output Voltage, 1.25MHz, TSOT-23-5; ki_keywords: Miniature Step-Down Buck Voltage Regulator; ki_fp_filters: TSOT?23*; Footprint: Package_TO_SOT_SMD:TSOT-23-6; Datasheet: http://www.ti.com/lit/ds/symlink/lm2842-q1.pdf; Description_: 100mA 42V Input Step-Down DC-DC Regulator, Adjustable Output Voltage, 1.25MHz, TSOT-23-5
pins: 1 BOOST, 2 GND, 3 FB, 4 EN, 5 VIN, 6 SW

## LM2841X
designator *  value LM2841X  Reference: U
300mA 42V Input Step-Down DC-DC Regulator, Adjustable Output Voltage, 550kHz, TSOT-23-5; ki_keywords: Miniature Step-Down Buck Voltage Regulator; ki_fp_filters: TSOT?23*; Footprint: Package_TO_SOT_SMD:TSOT-23-6; Datasheet: http://www.ti.com/lit/ds/symlink/lm2842-q1.pdf; Description_: 300mA 42V Input Step-Down DC-DC Regulator, Adjustable Output Voltage, 550kHz, TSOT-23-5
pins: 1 BOOST, 2 GND, 3 FB, 4 EN, 5 VIN, 6 SW

## LM2841Y
designator *  value LM2841Y  Reference: U
300mA 42V Input Step-Down DC-DC Regulator, Adjustable Output Voltage, 1.25MHz, TSOT-23-5; ki_keywords: Miniature Step-Down Buck Voltage Regulator; ki_fp_filters: TSOT?23*; Footprint: Package_TO_SOT_SMD:TSOT-23-6; Datasheet: http://www.ti.com/lit/ds/symlink/lm2842-q1.pdf; Description_: 300mA 42V Input Step-Down DC-DC Regulator, Adjustable Output Voltage, 1.25MHz, TSOT-23-5
pins: 1 BOOST, 2 GND, 3 FB, 4 EN, 5 VIN, 6 SW

## LM2842X
designator *  value LM2842X  Reference: U
600mA 42V Input Step-Down DC-DC Regulator, Adjustable Output Voltage, 550kHz, TSOT-23-5; ki_keywords: Miniature Step-Down Buck Voltage Regulator; ki_fp_filters: TSOT?23*; Footprint: Package_TO_SOT_SMD:TSOT-23-6; Datasheet: http://www.ti.com/lit/ds/symlink/lm2842-q1.pdf; Description_: 600mA 42V Input Step-Down DC-DC Regulator, Adjustable Output Voltage, 550kHz, TSOT-23-5
pins: 1 BOOST, 2 GND, 3 FB, 4 EN, 5 VIN, 6 SW

## LM2842Y
designator *  value LM2842Y  Reference: U
600mA 42V Input Step-Down DC-DC Regulator, Adjustable Output Voltage, 1.25MHz, TSOT-23-5; ki_keywords: Miniature Step-Down Buck Voltage Regulator; ki_fp_filters: TSOT?23*; Footprint: Package_TO_SOT_SMD:TSOT-23-6; Datasheet: http://www.ti.com/lit/ds/symlink/lm2842-q1.pdf; Description_: 600mA 42V Input Step-Down DC-DC Regulator, Adjustable Output Voltage, 1.25MHz, TSOT-23-5
pins: 1 BOOST, 2 GND, 3 FB, 4 EN, 5 VIN, 6 SW

## LM3150MH
designator *  value LM3150MH  Reference: U
42V Wide Vin synchronous Buck controller, HTSSOP-14; ki_keywords: Buck step-down converter; ki_fp_filters: *HTSSOP*1EP?4.4x5mm?P0.65mm*Mask3.155x3.255mm*; Footprint: Package_SO:Texas_HTSSOP-14-1EP_4.4x5mm_P0.65mm_EP3.4x5mm_Mask3.155x3.255mm_ThermalVias; Datasheet: http://www.ti.com/lit/ds/symlink/lm3150.pdf; Description_: 42V Wide Vin synchronous Buck controller, HTSSOP-14
pins: 1 VCC, 2 VIN, 3 EN, 4 FB, 5 SGND, 6 SS, 7 RON, 8 ILIM, 9 SGND, 10 SW, 11 HG, 12 BST, 13 LG, 14 PGND, 15 SGND

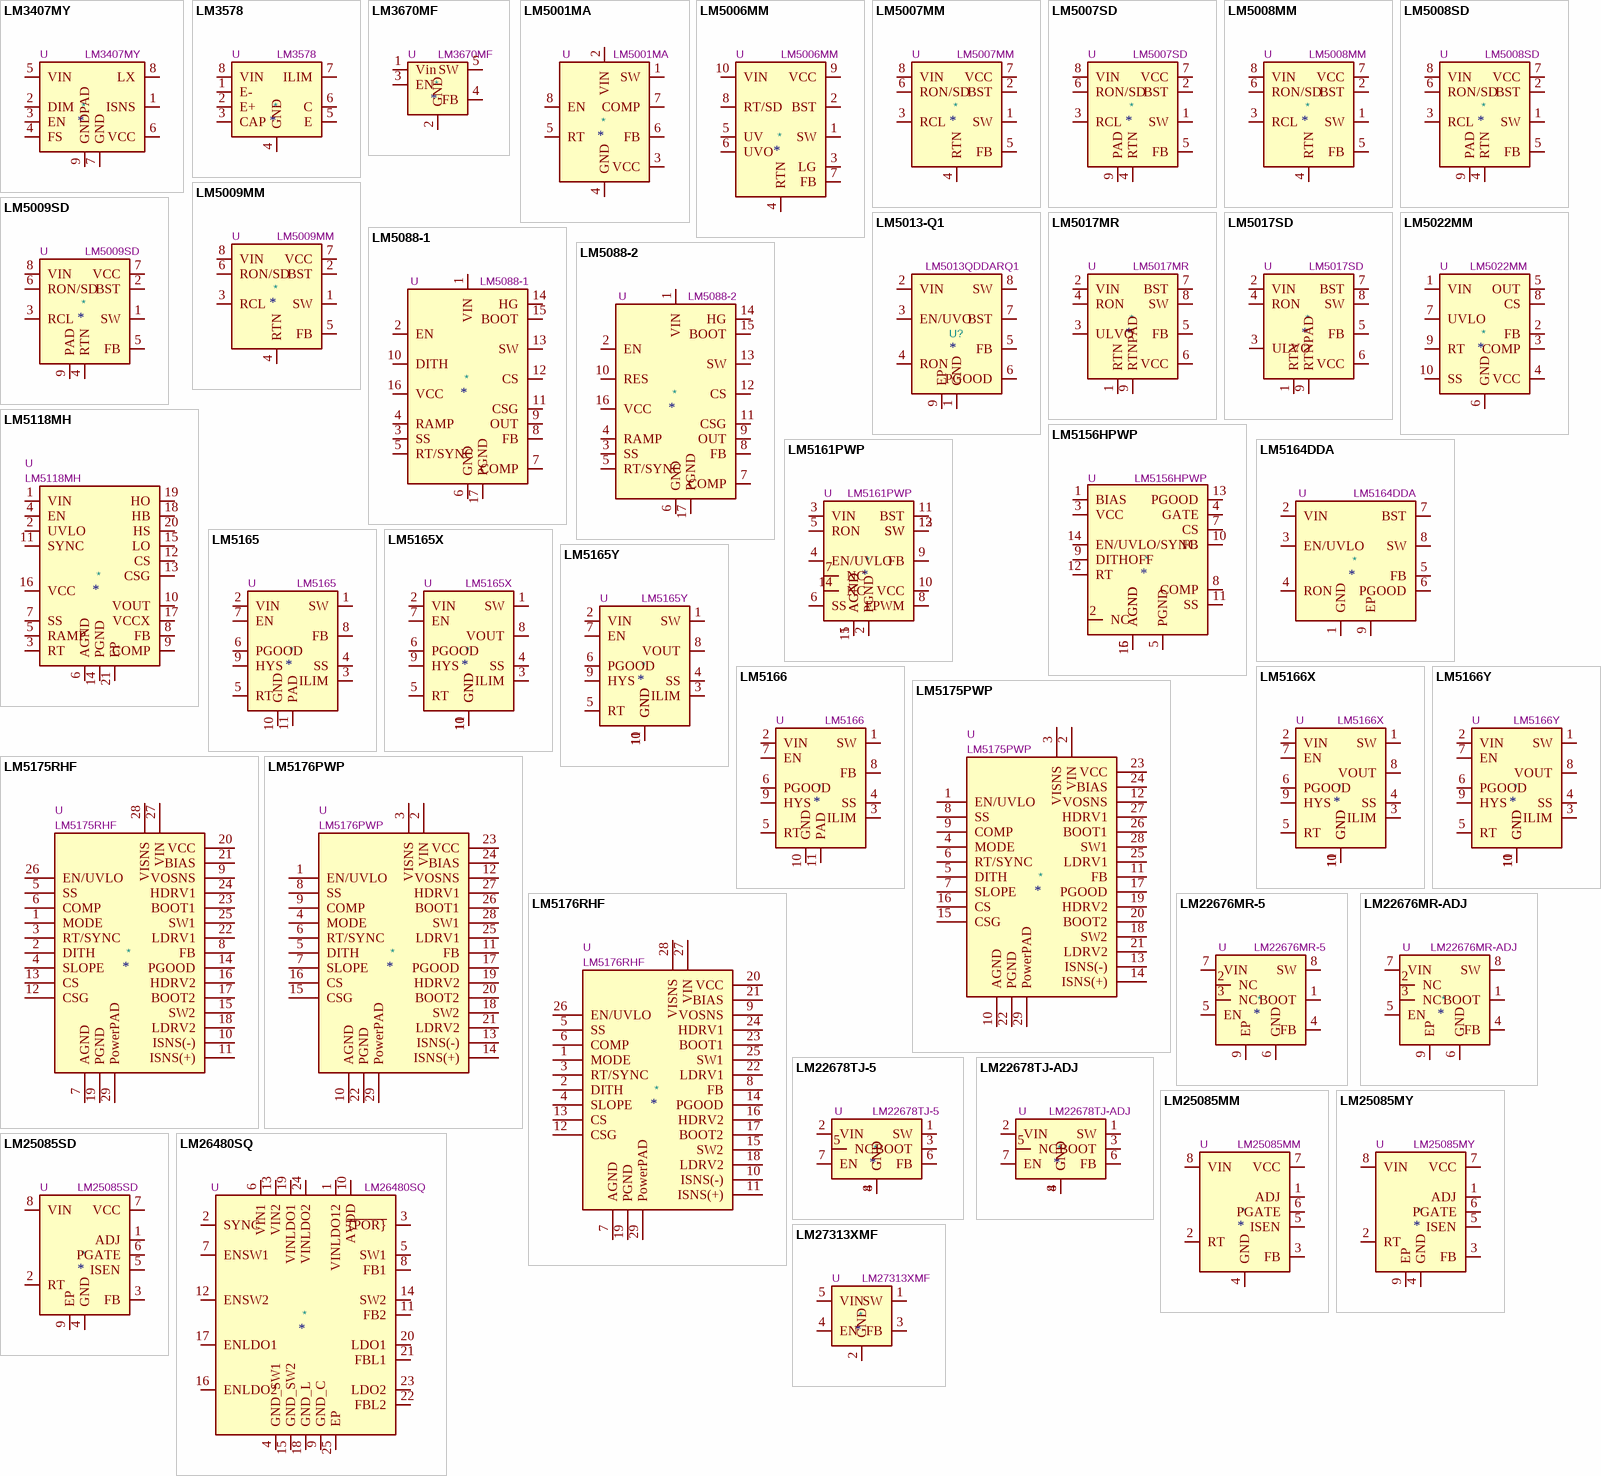
[diagram p7: symbols LM3407MY to LM27313XMF]

## LM3407MY
designator *  value LM3407MY  Reference: U
LED Lighting CC Floating Buck Switching Regulator, MSOP-8; ki_keywords: LED Step-Down Switching Regulator; ki_fp_filters: MSOP*1EP*3x3mm*P0.65mm*; Footprint: Package_SO:MSOP-8-1EP_3x3mm_P0.65mm_EP1.73x1.85mm_ThermalVias; Datasheet: http://www.ti.com/lit/ds/symlink/lm3407.pdf; Description_: LED Lighting CC Floating Buck Switching Regulator, MSOP-8
pins: 1 ISNS, 2 DIM, 3 EN, 4 FS, 5 VIN, 6 VCC, 7 GND, 8 LX, 9 GNDPAD

## LM3578
designator *  value LM3578  Reference: U
750mA, Switching Regulator, adjustable output voltage, DIP-8/SOIC-8; ki_fp_filters: DIP*W7.62mm* SOIC*3.9x4.9mm*; Datasheet: http://www.ti.com/lit/ds/symlink/lm3578a.pdf; Description_: 750mA, Switching Regulator, adjustable output voltage, DIP-8/SOIC-8; ki_keywords: switching regulator
pins: 1 E-, 2 E+, 3 CAP, 4 GND, 5 E, 6 C, 7 ILIM, 8 VIN

## LM3670MF
designator *  value LM3670MF  Reference: U
Miniature Step-Down DC-DC Converter for Ultralow Voltage Circuits, 2.5V < Vin < 5.5V, adjustable output voltage, SOT-23-5; ki_keywords: DC-DC buck converter step down voltage regulator; ki_fp_filters: TSOT?23*; Footprint: Package_TO_SOT_SMD:TSOT-23-5; Datasheet: http://www.ti.com/lit/ds/symlink/lm3670.pdf; Description_: Miniature Step-Down DC-DC Converter for Ultralow Voltage Circuits, 2.5V < Vin < 5.5V, adjustable output voltage, SOT-23-5
pins: 1 Vin, 2 GND, 3 EN, 4 FB, 5 SW

## LM5001MA
designator *  value LM5001MA  Reference: U
1A, High Voltage (75V) Switch-Mode Regulator, Adjustable Output Voltage, SOIC-8; ki_keywords: High-Voltage Switch-mode Regulator Flyback SEPIC Boost; ki_fp_filters: SOIC*3.9x4.9mm*P1.27mm*; Footprint: Package_SO:SOIC-8_3.9x4.9mm_P1.27mm; Datasheet: http://www.ti.com/lit/ds/symlink/lm5001.pdf; Description_: 1A, High Voltage (75V) Switch-Mode Regulator, Adjustable Output Voltage, SOIC-8
pins: 1 SW, 2 VIN, 3 VCC, 4 GND, 5 RT, 6 FB, 7 COMP, 8 EN

## LM5006MM
designator *  value LM5006MM  Reference: U
600mA, 80V Constant On-Time Buck Switching Regulator, MSOP-10; ki_fp_filters: MSOP*3x3mm*P0.5mm*; Footprint: Package_SO:MSOP-10_3x3mm_P0.5mm; Datasheet: http://www.ti.com/lit/ds/symlink/lm5006.pdf; Description_: 600mA, 80V Constant On-Time Buck Switching Regulator, MSOP-10; ki_keywords: Constant On-Time Buck Switching Regulator
pins: 1 SW, 2 BST, 3 LG, 4 RTN, 5 UV, 6 UVO, 7 FB, 8 RT/SD, 9 VCC, 10 VIN

## LM5007MM
designator *  value LM5007MM  Reference: U
700mA, High Voltage (80V) Step-Down Switching Regulator, Adjustable Output Voltage, MSOP-8; ki_fp_filters: MSOP*3x3mm*P0.65mm*; Footprint: Package_SO:MSOP-8_3x3mm_P0.65mm; Datasheet: http://www.ti.com/lit/ds/symlink/lm5007.pdf; Description_: 700mA, High Voltage (80V) Step-Down Switching Regulator, Adjustable Output Voltage, MSOP-8; ki_keywords: Step-Down Switching Regulator
pins: 1 SW, 2 BST, 3 RCL, 4 RTN, 5 FB, 6 RON/SD, 7 VCC, 8 VIN

## LM5007SD
designator *  value LM5007SD  Reference: U
700mA, High Voltage (80V) Step-Down Switching Regulator, Adjustable Output Voltage, WSON-8; ki_fp_filters: WSON*1EP*4x4mm*P0.8mm*; Footprint: Package_SON:WSON-8-1EP_4x4mm_P0.8mm_EP2.6x3mm; Datasheet: http://www.ti.com/lit/ds/symlink/lm5007.pdf; Description_: 700mA, High Voltage (80V) Step-Down Switching Regulator, Adjustable Output Voltage, WSON-8; ki_keywords: Step-Down Switching Regulator
pins: 1 SW, 2 BST, 3 RCL, 4 RTN, 5 FB, 6 RON/SD, 7 VCC, 8 VIN, 9 PAD

## LM5008MM
designator *  value LM5008MM  Reference: U
500mA, High Voltage (100V) Step-Down Switching Regulator, Adjustable Output Voltage, MSOP-8; ki_fp_filters: MSOP*3x3mm*P0.65mm*; Footprint: Package_SO:MSOP-8_3x3mm_P0.65mm; Datasheet: http://www.ti.com/lit/ds/symlink/lm5008.pdf; Description_: 500mA, High Voltage (100V) Step-Down Switching Regulator, Adjustable Output Voltage, MSOP-8; ki_keywords: Step-Down Switching Regulator
pins: 1 SW, 2 BST, 3 RCL, 4 RTN, 5 FB, 6 RON/SD, 7 VCC, 8 VIN

## LM5008SD
designator *  value LM5008SD  Reference: U
500mA, High Voltage (100V) Step-Down Switching Regulator, Adjustable Output Voltage, WSON-8; ki_fp_filters: WSON*1EP*4x4mm*P0.8mm*; Footprint: Package_SON:WSON-8-1EP_4x4mm_P0.8mm_EP2.6x3mm; Datasheet: http://www.ti.com/lit/ds/symlink/lm5008.pdf; Description_: 500mA, High Voltage (100V) Step-Down Switching Regulator, Adjustable Output Voltage, WSON-8; ki_keywords: Step-Down Switching Regulator
pins: 1 SW, 2 BST, 3 RCL, 4 RTN, 5 FB, 6 RON/SD, 7 VCC, 8 VIN, 9 PAD

## LM5009MM
designator *  value LM5009MM  Reference: U
150mA, High Voltage (80V) Step-Down Switching Regulator, Adjustable Output Voltage, MSOP-8; ki_fp_filters: MSOP*3x3mm*P0.65mm*; Footprint: Package_SO:MSOP-8_3x3mm_P0.65mm; Datasheet: http://www.ti.com/lit/ds/symlink/lm5009.pdf; Description_: 150mA, High Voltage (80V) Step-Down Switching Regulator, Adjustable Output Voltage, MSOP-8; ki_keywords: Step-Down Switching Regulator
pins: 1 SW, 2 BST, 3 RCL, 4 RTN, 5 FB, 6 RON/SD, 7 VCC, 8 VIN

## LM5009SD
designator *  value LM5009SD  Reference: U
500mA, High Voltage (80V) Step-Down Switching Regulator, Adjustable Output Voltage, WSON-8; ki_fp_filters: WSON*1EP*4x4mm*P0.8mm*; Footprint: Package_SON:WSON-8-1EP_4x4mm_P0.8mm_EP2.6x3mm; Datasheet: http://www.ti.com/lit/ds/symlink/lm5009.pdf; Description_: 500mA, High Voltage (80V) Step-Down Switching Regulator, Adjustable Output Voltage, WSON-8; ki_keywords: Step-Down Switching Regulator
pins: 1 SW, 2 BST, 3 RCL, 4 RTN, 5 FB, 6 RON/SD, 7 VCC, 8 VIN, 9 PAD

## LM5013-Q1
designator U?  value LM5013QDDARQ1
3.5A, 100V  Automotive Step-Down Switching Regulator, SOIC-8; Manufacturer: Texas Instruments; Manufacturer Lifecycle Status: ACTIVE; Description_: 600mA, 100V Step-Down Switching Regulator, WSON-8; ki_keywords: Step-Down Switching Regulator High Voltage; ki_fp_filters: WSON*1EP*4x4mm*P0.8mm*; Topology: Buck; Footprint: Package_SON:WSON-8-1EP_4x4mm_P0.8mm_EP1.98x3mm; Datasheet: http://www.ti.com/lit/ds/symlink/lm5017.pdf; Category: Voltage Regulators - Switching; Height: 1.7mm; Length: 4.89mm; Lifecycle Status: Production; Manufacturer Part Number: LM5013QDDARQ1; Pins: 8; RoHS: Compliant; Thickness: 1.48mm; Width: 3.9mm
footprint SOIC-8-1EP_3.9x4.9mm_P1.27mm_EP2.41x3.3mm_ThermalVias
pins: 1 GND, 2 VIN, 3 EN/UVO, 4 RON, 5 FB, 6 PGOOD, 7 BST, 8 SW, 9 EP

## LM5017MR
designator *  value LM5017MR  Reference: U
600mA, 100V Step-Down Switching Regulator, PowerSO-8; ki_keywords: Step-Down Switching Regulator High Voltage; ki_fp_filters: SOIC*1EP*3.9x4.9mm*P1.27mm*; Footprint: Package_SO:SOIC-8-1EP_3.9x4.9mm_P1.27mm_EP2.95x4.9mm_Mask2.71x3.4mm_ThermalVias; Datasheet: http://www.ti.com/lit/ds/symlink/lm5017.pdf; Description_: 600mA, 100V Step-Down Switching Regulator, PowerSO-8
pins: 1 RTN, 2 VIN, 3 ULVO, 4 RON, 5 FB, 6 VCC, 7 BST, 8 SW, 9 RTNPAD

## LM5017SD
designator *  value LM5017SD  Reference: U
600mA, 100V Step-Down Switching Regulator, WSON-8; ki_keywords: Step-Down Switching Regulator High Voltage; ki_fp_filters: WSON*1EP*4x4mm*P0.8mm*; Footprint: Package_SON:WSON-8-1EP_4x4mm_P0.8mm_EP1.98x3mm; Datasheet: http://www.ti.com/lit/ds/symlink/lm5017.pdf; Description_: 600mA, 100V Step-Down Switching Regulator, WSON-8
pins: 1 RTN, 2 VIN, 3 ULVO, 4 RON, 5 FB, 6 VCC, 7 BST, 8 SW, 9 RTNPAD

## LM5022MM
designator *  value LM5022MM  Reference: U
60-V Low-Side Controller for Boost and SEPIC, MSOP-10; ki_keywords: boost switching controller; ki_fp_filters: MSOP*3x3mm*P0.5mm*; Footprint: Package_SO:MSOP-10_3x3mm_P0.5mm; Datasheet: http://www.ti.com/lit/ds/symlink/lm5022.pdf; Description_: 60-V Low-Side Controller for Boost and SEPIC, MSOP-10
pins: 1 VIN, 2 FB, 3 COMP, 4 VCC, 5 OUT, 6 GND, 7 UVLO, 8 CS, 9 RT, 10 SS

## LM5088-1
designator *  value LM5088-1  Reference: U
Wide Input Range Non-Synchronous Buck Controller, Frequency Dithering, 75V, HTSSOP-16; ki_keywords: step down buck high voltage; ki_fp_filters: HTSSOP*1EP*4.4x5mm*P0.65mm*; Footprint: Package_SO:HTSSOP-16-1EP_4.4x5mm_P0.65mm_EP3.4x5mm_Mask3x3mm_ThermalVias; Datasheet: http://www.ti.com/lit/ds/symlink/lm5088.pdf; Description_: Wide Input Range Non-Synchronous Buck Controller, Frequency Dithering, 75V, HTSSOP-16
pins: 1 VIN, 2 EN, 3 SS, 4 RAMP, 5 RT/SYNC, 6 GND, 7 COMP, 8 FB, 9 OUT, 10 DITH, 11 CSG, 12 CS, 13 SW, 14 HG, 15 BOOT, 16 VCC, 17 PGND

## LM5088-2
designator *  value LM5088-2  Reference: U
Wide Input Range Non-Synchronous Buck Controller, Hiccup Mode Restart, 75V, HTSSOP-16; ki_keywords: step down buck high voltage; ki_fp_filters: HTSSOP*1EP*4.4x5mm*P0.65mm*; Footprint: Package_SO:HTSSOP-16-1EP_4.4x5mm_P0.65mm_EP3.4x5mm_Mask3x3mm_ThermalVias; Datasheet: http://www.ti.com/lit/ds/symlink/lm5088.pdf; Description_: Wide Input Range Non-Synchronous Buck Controller, Hiccup Mode Restart, 75V, HTSSOP-16
pins: 1 VIN, 2 EN, 3 SS, 4 RAMP, 5 RT/SYNC, 6 GND, 7 COMP, 8 FB, 9 OUT, 10 RES, 11 CSG, 12 CS, 13 SW, 14 HG, 15 BOOT, 16 VCC, 17 PGND

## LM5118MH
designator *  value LM5118MH  Reference: U
Wide Voltage Range Buck-Boost Controller, HTSSOP-20; ki_keywords: Buck Boost step-up step-down; ki_fp_filters: Texas*PWP0020A*; Footprint: Package_SO:Texas_PWP0020A; Datasheet: https://www.ti.com/lit/ds/symlink/lm5118.pdf; Description_: Wide Voltage Range Buck-Boost Controller, HTSSOP-20
pins: 1 VIN, 2 UVLO, 3 RT, 4 EN, 5 RAMP, 6 AGND, 7 SS, 8 FB, 9 COMP, 10 VOUT, 11 SYNC, 12 CS, 13 CSG, 14 PGND, 15 LO, 16 VCC, 17 VCCX, 18 HB, 19 HO, 20 HS, 21 EP

## LM5156HPWP
designator *  value LM5156HPWP  Reference: U
65V Wide Vin non-synchronous Boost/SEPIC/Flyback controller, HTSSOP-14; ki_keywords: Boost SEPIC Flyback converter; ki_fp_filters: *HTSSOP*1EP?4.4x5mm?P0.65mm*Mask3.155x3.255mm*; Footprint: Package_SO:Texas_HTSSOP-14-1EP_4.4x5mm_P0.65mm_EP3.4x5mm_Mask3.155x3.255mm_ThermalVias; Datasheet: https://www.ti.com/lit/ds/symlink/lm5156h.pdf; Description_: 65V Wide Vin non-synchronous Boost/SEPIC/Flyback controller, HTSSOP-14
pins: 1 BIAS, 2 NC, 3 VCC, 4 GATE, 5 PGND, 6 AGND, 7 CS, 8 COMP, 9 DITHOFF, 10 FB, 11 SS, 12 RT, 13 PGOOD, 14 EN/UVLO/SYNC, 15 AGND

## LM5161PWP
designator *  value LM5161PWP  Reference: U
1A Synchronous Buck/Fly-buck Converter, 4.5V-100V input, adjustable output voltage, HTSSOP-14; ki_keywords: step-down dc-dc buck regulator adjustable; ki_fp_filters: *HTSSOP*1EP?4.4x5mm?P0.65mm*Mask3.155x3.255mm*; Footprint: Package_SO:Texas_HTSSOP-14-1EP_4.4x5mm_P0.65mm_EP3.4x5mm_Mask3.155x3.255mm_ThermalVias; Datasheet: http://www.ti.com/lit/ds/symlink/lm5161.pdf; Description_: 1A Synchronous Buck/Fly-buck Converter, 4.5V-100V input, adjustable output voltage, HTSSOP-14
pins: 1 AGND, 2 PGND, 3 VIN, 4 EN/UVLO, 5 RON, 6 SS, 7 NC, 8 FPWM, 9 FB, 10 VCC, 11 BST, 12 SW, 13 SW, 14 NC, 15 AGND

## LM5164DDA
designator *  value LM5164DDA  Reference: U
1A synchronous buck converter with ultra-low IQ, 6V - 100V input, adjustable output voltage, HSOP-8; ki_keywords: step-down dc-dc buck regulator adjustable; ki_fp_filters: HSOP*1EP*3.9x4.9*P1.27mm*; Footprint: Package_SO:HSOP-8-1EP_3.9x4.9mm_P1.27mm_EP2.41x3.1mm_ThermalVias; Datasheet: https://www.ti.com/lit/ds/symlink/lm5164.pdf?ts=1598311864250&ref_url=https%253A%252F%252Fwww.ti.com%252Fproduct%252FLM5164%253FHQS%253DTI-null-null-octopart-df-pf-null-wwe; Description_: 1A synchronous buck converter with ultra-low IQ, 6V - 100V input, adjustable output voltage, HSOP-8
pins: 1 GND, 2 VIN, 3 EN/UVLO, 4 RON, 5 FB, 6 PGOOD, 7 BST, 8 SW, 9 EP

## LM5165
designator *  value LM5165  Reference: U
150mA Synchronous Buck Converter With Ultra-Low IQ, 3V-65V input, adjustable output voltage, DFN-10; ki_keywords: step-down dc-dc buck regulator adjustable; ki_fp_filters: Texas*PVSON*N10*; Footprint: Package_SON:Texas_S-PVSON-N10_ThermalVias; Datasheet: http://www.ti.com/lit/ds/symlink/lm5165.pdf; Description_: 150mA Synchronous Buck Converter With Ultra-Low IQ, 3V-65V input, adjustable output voltage, DFN-10
pins: 1 SW, 2 VIN, 3 ILIM, 4 SS, 5 RT, 6 PGOOD, 7 EN, 8 FB, 9 HYS, 10 GND, 11 PAD

## LM5165X
designator *  value LM5165X  Reference: U
150mA Synchronous Buck Converter With Ultra-Low IQ, 3V-65V input, 5.0V fixed output voltage, DFN-10; ki_keywords: step-down dc-dc buck regulator fixed 5V; ki_fp_filters: Texas*PVSON*N10*; Footprint: Package_SON:Texas_S-PVSON-N10_ThermalVias; Datasheet: http://www.ti.com/lit/ds/symlink/lm5165.pdf; Description_: 150mA Synchronous Buck Converter With Ultra-Low IQ, 3V-65V input, 5.0V fixed output voltage, DFN-10
pins: 1 SW, 2 VIN, 3 ILIM, 4 SS, 5 RT, 6 PGOOD, 7 EN, 8 VOUT, 9 HYS, 10 GND, 11 GND

## LM5165Y
designator *  value LM5165Y  Reference: U
150mA Synchronous Buck Converter With Ultra-Low IQ, 3V-65V input, 3.3V fixed output voltage, DFN-10; ki_keywords: step-down dc-dc buck regulator fixed 3V3; ki_fp_filters: Texas*PVSON*N10*; Footprint: Package_SON:Texas_S-PVSON-N10_ThermalVias; Datasheet: http://www.ti.com/lit/ds/symlink/lm5165.pdf; Description_: 150mA Synchronous Buck Converter With Ultra-Low IQ, 3V-65V input, 3.3V fixed output voltage, DFN-10
pins: 1 SW, 2 VIN, 3 ILIM, 4 SS, 5 RT, 6 PGOOD, 7 EN, 8 VOUT, 9 HYS, 10 GND, 11 GND

## LM5166
designator *  value LM5166  Reference: U
500mA Synchronous Buck Converter With Ultra-Low IQ, 3V-65V input, adjustable output voltage, DFN-10; ki_keywords: step-down dc-dc buck regulator adjustable; ki_fp_filters: Texas*PVSON*N10*; Footprint: Package_SON:Texas_S-PVSON-N10_ThermalVias; Datasheet: http://www.ti.com/lit/ds/symlink/lm5166.pdf; Description_: 500mA Synchronous Buck Converter With Ultra-Low IQ, 3V-65V input, adjustable output voltage, DFN-10
pins: 1 SW, 2 VIN, 3 ILIM, 4 SS, 5 RT, 6 PGOOD, 7 EN, 8 FB, 9 HYS, 10 GND, 11 PAD

## LM5166X
designator *  value LM5166X  Reference: U
500mA Synchronous Buck Converter With Ultra-Low IQ, 3V-65V input, 5.0V fixed output voltage, DFN-10; ki_keywords: step-down dc-dc buck regulator fixed 5V; ki_fp_filters: Texas*PVSON*N10*; Footprint: Package_SON:Texas_S-PVSON-N10_ThermalVias; Datasheet: http://www.ti.com/lit/ds/symlink/lm5166.pdf; Description_: 500mA Synchronous Buck Converter With Ultra-Low IQ, 3V-65V input, 5.0V fixed output voltage, DFN-10
pins: 1 SW, 2 VIN, 3 ILIM, 4 SS, 5 RT, 6 PGOOD, 7 EN, 8 VOUT, 9 HYS, 10 GND, 11 GND

## LM5166Y
designator *  value LM5166Y  Reference: U
500mA Synchronous Buck Converter With Ultra-Low IQ, 3V-65V input, 3.3V fixed output voltage, DFN-10; ki_keywords: step-down dc-dc buck regulator fixed 3V3; ki_fp_filters: Texas*PVSON*N10*; Footprint: Package_SON:Texas_S-PVSON-N10_ThermalVias; Datasheet: http://www.ti.com/lit/ds/symlink/lm5166.pdf; Description_: 500mA Synchronous Buck Converter With Ultra-Low IQ, 3V-65V input, 3.3V fixed output voltage, DFN-10
pins: 1 SW, 2 VIN, 3 ILIM, 4 SS, 5 RT, 6 PGOOD, 7 EN, 8 VOUT, 9 HYS, 10 GND, 11 GND

## LM5175PWP
designator *  value LM5175PWP  Reference: U
42-V wide Vin synchronous 4-switch Buck-Boost controller, HTSSOP-28 package; ki_keywords: Buck Boost step-up step-down; ki_fp_filters: HTSSOP*4.4x9.7mm*P0.65*ThermalVias*; Footprint: Package_SO:HTSSOP-28-1EP_4.4x9.7mm_P0.65mm_EP3.4x9.5mm_ThermalVias; Datasheet: http://www.ti.com/lit/ds/symlink/lm5175.pdf; Description_: 42-V wide Vin synchronous 4-switch Buck-Boost controller, HTSSOP-28 package
pins: 1 EN/UVLO, 2 VIN, 3 VISNS, 4 MODE, 5 DITH, 6 RT/SYNC, 7 SLOPE, 8 SS, 9 COMP, 10 AGND, 11 FB, 12 VOSNS, 13 ISNS(-), 14 ISNS(+), 15 CSG, 16 CS, 17 PGOOD, 18 SW2, 19 HDRV2, 20 BOOT2, 21 LDRV2, 22 PGND, 23 VCC, 24 BIAS, 25 LDRV1, 26 BOOT1, 27 HDRV1, 28 SW1, 29 PowerPAD

## LM5175RHF
designator *  value LM5175RHF  Reference: U
42-V wide Vin synchronous 4-switch Buck-Boost controller, QFN-28 package; ki_keywords: Buck Boost step-up step-down; ki_fp_filters: VQFN*4x5mm*P0.5*; Footprint: Package_DFN_QFN:VQFN-28-1EP_4x5mm_P0.5mm_EP2.55x3.55mm; Datasheet: http://www.ti.com/lit/ds/symlink/lm5175.pdf; Description_: 42-V wide Vin synchronous 4-switch Buck-Boost controller, QFN-28 package
pins: 1 MODE, 2 DITH, 3 RT/SYNC, 4 SLOPE, 5 SS, 6 COMP, 7 AGND, 8 FB, 9 VOSNS, 10 ISNS(-), 11 ISNS(+), 12 CSG, 13 CS, 14 PGOOD, 15 SW2, 16 HDRV2, 17 BOOT2, 18 LDRV2, 19 PGND, 20 VCC, 21 BIAS, 22 LDRV1, 23 BOOT1, 24 HDRV1, 25 SW1, 26 EN/UVLO, 27 VIN, 28 VISNS, 29 PowerPAD

## LM5176PWP
designator *  value LM5176PWP  Reference: U
55-V wide Vin synchronous 4-switch Buck-Boost controller, HTSSOP-28 package; ki_keywords: Buck Boost step-up step-down; ki_fp_filters: HTSSOP*4.4x9.7mm*P0.65*ThermalVias*; Footprint: Package_SO:HTSSOP-28-1EP_4.4x9.7mm_P0.65mm_EP3.4x9.5mm_ThermalVias; Datasheet: http://www.ti.com/lit/ds/symlink/lm5176.pdf; Description_: 55-V wide Vin synchronous 4-switch Buck-Boost controller, HTSSOP-28 package
pins: 1 EN/UVLO, 2 VIN, 3 VISNS, 4 MODE, 5 DITH, 6 RT/SYNC, 7 SLOPE, 8 SS, 9 COMP, 10 AGND, 11 FB, 12 VOSNS, 13 ISNS(-), 14 ISNS(+), 15 CSG, 16 CS, 17 PGOOD, 18 SW2, 19 HDRV2, 20 BOOT2, 21 LDRV2, 22 PGND, 23 VCC, 24 BIAS, 25 LDRV1, 26 BOOT1, 27 HDRV1, 28 SW1, 29 PowerPAD